# Altium schematic symbol library TEP-AltiumLib-TP-MH-Tooling-Logo.SCHLIB: 31 symbols
Pins are listed as number, name and electrical type; pins without a type are passive.

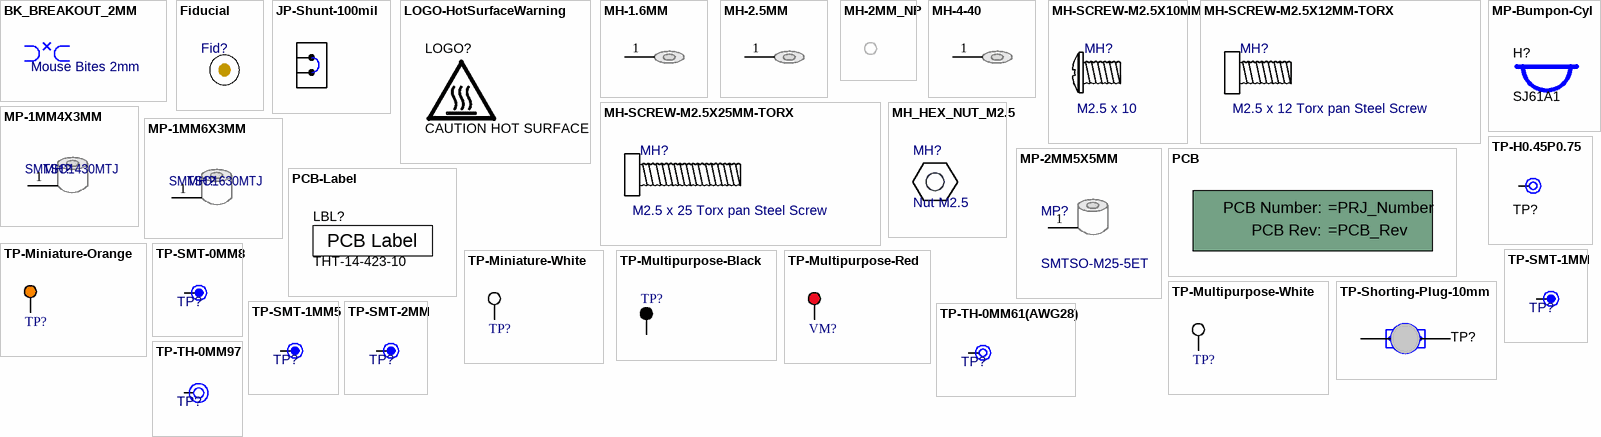
[diagram p0: symbols BK_BREAKOUT_2MM to TP-TH-0MM97]

## BK_BREAKOUT_2MM
designator BRK?, comment value Mouse Bites 2mm  (hidden comment: DNP)  (no BOM)
Mouse Bites; Mounting Technology: N/A
footprint BK_CRACK1B_M (Cracker métrique NPTH)
footprint BK_CRACK2B_M (Cracker métrique NPTH)
pins: 1 hidden, 2 hidden, 3 hidden, 4 hidden, 5 hidden

## Fiducial
designator Fid?, comment DNP  (value not drawn)  (no BOM)
Fiducial mark for alignement and Pick&Place; Value: Fiducial mark; Mounting Technology: N/A
footprint FD_Fiducial (Fiducial)
pins: 1 hidden, 1 hidden, 2 hidden, 3 hidden, 4 hidden, 5 hidden

## JP-Shunt-100mil
designator SH-J?, comment 60900213421  (value not drawn)  (mechanical)
Shunt, 2.54mm, Gold, Black; Manufacturer 1: Wurth Elektronik; Supplier Part Number 2: 16T0609; Supplier 3: Mouser; Supplier 1: Digi-Key; Supplier Part Number 1: 732-2678-ND; Supplier Part Number 3: 710-60900213421; Supplier 2: Newark; Manufacturer Part Number 1: 60900213421; Mounting Technology: N/A
footprint JP-Shunt-100mil (Shunt, 2.54mm, Black)

## LOGO-HotSurfaceWarning
designator LOGO?, comment CAUTION HOT SURFACE  (no BOM)
IEC 61010-1 Hot Surface Warning; Manufacturer 1: Texas Instruments; Manufacturer Part Number 1: DNP; Library Reference: IEC_HotSurface; Mounting Technology: N/A
footprint IEC_HotSurface_Small

## MH-1.6MM
designator MH?, comment DNP  (value not drawn)  (no BOM)
Mounting Hole 1.6mm; Manufacturer Part Number 1: DNP; Mounting Technology: N/A; Value: Mounting Hole 1.6mm; Supplier Part Number 1: N/A
footprint MP_M-Hole_M1.6 (Monting Hole M1.6)
pins: 1 (power)

## MH-2.5MM
designator MH?, comment DNP  (value not drawn)  (no BOM)
Mounting Hole 2.5mm w/ Flat Washer; Manufacturer Part Number 1: DNP; Mounting Technology: N/A; Value: Mounting Hole 2.5mm w/ Flat Washer; Supplier Part Number 1: N/A
footprint MP_M-Hole_M2.5x0.45mm_LOOSE-FIT (Monting Hole M2.5x0.45mm LOOSE Fit)
footprint MP_M-Hole_M2.5x0.45mm_TIGHT-FIT (Monting Hole M2.5x0.45mm Tight Fit)
pins: 1 (power)

## MH-2MM_NP
designator MH?, comment DNP  (value not drawn)  (no BOM)
Mounting Hole 2mm non plated; Manufacturer Part Number 1: DNP; Mounting Technology: N/A; Value: Mounting Hole 2mm non plated; Supplier Part Number 1: N/A
footprint MP_M-Hole_M2-NonPlated (Monting Hole M2 non plated)

## MH-4-40
designator MH?, comment DNP  (value not drawn)  (no BOM)
Mounting Hole #4-40 w/ Flat Washer; Manufacturer Part Number 1: DNP; Mounting Technology: N/A; Value: Mounting Hole #4-40 w/ Flat Washer; Supplier Part Number 1: N/A
footprint MP_M-Hole_#4-40_LOOSE-FIT (Monting Hole #4-40 Loose Fit)
pins: 1 (power)

## MH-SCREW-M2.5X10MM
designator MH?, comment M2.5 x 10  (mechanical)
Value: M2.5 x 10; Mounting Technology: Hardware

## MH-SCREW-M2.5X12MM-TORX
designator MH?, comment M2.5 x 12 Torx pan Steel Screw  (mechanical)
Code CEGEP: KVIS12MM; Localisation: R13-C160-1; Value: M2.5 x 12 Torx pan Steel Screw; Mounting Technology: Hardware

## MH-SCREW-M2.5X25MM-TORX
designator MH?, comment M2.5 x 25 Torx pan Steel Screw  (mechanical)
Code CEGEP: KVIS25MM; Localisation: R13-C160-2; Value: M2.5 x 25 Torx pan Steel Screw; Mounting Technology: Hardware

## MH_HEX_NUT_M2.5
designator MH?, comment Nut M2.5  (mechanical)
Steel Hex Nut M2.5; Manufacturer 1: Keystone Electronics; Manufacturer Part Number 1: 4707; Code CEGEP: KECROU; Localisation: R13-C160-3; Supplier 1: Digikey; Supplier Part Number 1: 36-4707-ND; Value: Steel Hex Nut M2.5; Mounting Technology: Hardware

## MP-1MM4X3MM
designator MH?, comment SMTSO1430MTJ
Mounting Standoff Threaded 1.4mm, stack height 3mm, SMT; Manufacturer 1: Sinhoo; Manufacturer Part Number 1: SMTSO1430MTJ; Mounting Technology: SMT; Value: Mounting Standoff Threaded 1.4mm, stack height 3mm, SMT; Supplier 1: LCSC; Supplier Part Number 1: C2915624
footprint MP_Standoff_M1.4x3mm_SMT (Spacer SMT 3mm M1.4)
pins: 1 (power)

## MP-1MM6X3MM
designator MH?, comment SMTSO1630MTJ
Mounting Standoff Threaded 1.6mm, stack height 3mm, SMT; Manufacturer 1: Sinhoo; Code CEGEP: KPTSO10; Localisation: R13-E070; Manufacturer Part Number 1: SMTSO1630MTJ; Mounting Technology: SMT; Value: Mounting Standoff Threaded 1.6mm, stack height 3mm, SMT; Supplier 1: LCSC; Supplier Part Number 1: C2915625
footprint MP_Standoff_M1.4x3mm_SMT (Spacer SMT 3mm M1.4)
pins: 1 (power)

## MP-2MM5X5MM
designator MP?, comment SMTSO-M25-5ET
Mounting Standoff Threaded Standoff M2.5, 5mm SMT; Manufacturer 1: PennEngineering; Manufacturer Part Number 1: SMTSO-M25-5ET; Mounting Technology: SMT; Value: Mounting Standoff Threaded Standoff M2.5, 5mm SMT
footprint MP_Standoff_M2.5x5mm_SMT (Spacer SMT 5mm M2.5)
pins: 1 (power)

## MP-Bumpon-Cyl
designator H?, comment SJ61A1  (mechanical)
Bumpon, Cylindrical, 0.312 X 0.200, Black; Manufacturer 1: 3M; Supplier Part Number 2: 517-SJ-61A1; Supplier 1: Digi-Key; Supplier Part Number 1: SJ5746-0-ND; Supplier 2: Mouser; Manufacturer Part Number 1: SJ61A1; Mounting Technology: N/A
footprint MP-Bumpon_SJ61A1 (3M Cylindrical Bumpon)

## PCB
designator !PCB?, comment Printed Circuit Board  (value not drawn)  (mechanical)
Manufacturer 1: Any; Mounting Technology: N/A
1 alternate drawing of the same symbol
text: PCB Number:; PCB Rev:

## PCB-Label
designator LBL?, comment THT-14-423-10  (mechanical)
Thermal Transfer Printable Labels, 0.650" W x 0.200" H - 10,000 per roll; Manufacturer 1: Brady; Supplier 1: Newark; Supplier Part Number 1: 97C5133; Supplier 2: Farnell; Supplier Part Number 2: 2065596; Manufacturer Part Number 1: THT-14-423-10; Mounting Technology: N/A
footprint Label_650x200 (Thermal Transfer Label)
text: PCB Label

## TP-H0.45P0.75
designator TP?, comment TP_H0.45P0.75  (value not drawn)  (no BOM)
Testpoint; Manufacturer 1: Texas Instruments; Manufacturer Part Number 1: TP_H0.45P0.75; Mounting Technology: TH
footprint TP_H045P075 (TP_H0.45P0.75)
pins: 1

## TP-Miniature-Orange
designator TP?, comment 5003  (value not drawn)
Test Point, Miniature, Orange, TH; Manufacturer 1: Keystone Electronics; Supplier Part Number 2: 534-5003; Supplier 2: Mouser; Supplier 1: Digi-Key; Supplier Part Number 1: 36-5003-ND; Manufacturer Part Number 1: 5003; Mounting Technology: TH
footprint TP-Keystone5003 (For Keystone 500x miniature loop terminals)
pins: 1

## TP-Miniature-White
designator TP?, comment 5002  (value not drawn)
Test Point, Miniature, White, TH; Manufacturer 1: Keystone Electronics; Supplier Part Number 3: 534-5002; Supplier Part Number 2: 82H9632; Supplier 2: Newark; Supplier 3: Mouser; Supplier Part Number 1: 36-5002-ND; Supplier 1: Digi-Key; Manufacturer Part Number 1: 5002; Mounting Technology: TH
footprint TP-Keystone5002 (For Keystone 500x miniature loop terminals)
pins: 1

## TP-Multipurpose-Black
designator TP?, comment 5011  (value not drawn)
Test Point, Multipurpose, Black, TH; Manufacturer 1: Keystone Electronics; Manufacturer Part Number 1: 36-5011-ND; Supplier Part Number 2: 534-5011; Supplier 2: Mouser; Supplier 1: Digi-Key; Supplier Part Number 1: 36-5011-ND; Mounting Technology: TH
footprint TP-Keystone5011 (Keystone Multipurpose loops)
pins: 1

## TP-Multipurpose-Red
designator VM?, comment 5010  (value not drawn)
Test Point, Multipurpose, Red, TH; Manufacturer 1: Keystone Electronics; Manufacturer Part Number 1: 36-5010-ND; Supplier Part Number 2: 534-5010; Supplier 2: Mouser; Supplier 1: Digi-Key; Supplier Part Number 1: 36-5010-ND; Mounting Technology: TH
footprint TP-Keystone5010 (Keystone Multipurpose loops)
pins: 1

## TP-Multipurpose-White
designator TP?, comment 5012  (value not drawn)
Test Point, Multipurpose, White, TH; Manufacturer 1: Keystone Electronics; Supplier Part Number 2: 534-5012; Supplier Part Number 1: 36-5012-ND; Supplier 2: Mouser; Supplier 1: Digi-Key; Manufacturer Part Number 1: 5012; Mounting Technology: TH
footprint TP-Keystone5012 (Keystone Multipurpose loops)
pins: 1

## TP-Shorting-Plug-10mm
designator TP?, comment Jumper_2p  (value not drawn)
1mm Uninsulated Shorting Plug, 10.16mm spacing, TH; Manufacturer 1: Harwin; Manufacturer Part Number 1: D3082-05; Supplier 1: Digi-Key; Supplier 2: Newark; Supplier 3: Mouser; Supplier Part Number 1: 952-1873-ND; Supplier Part Number 2: 01E9240; Supplier Part Number 3: 855-D3082-05; Mounting Technology: TH
footprint TP-Harwin_D3082-05 (Shorting Plug, 10.16mm spacing, TH)
pins: 1, 2

## TP-SMT-0MM8
designator TP?, comment DNP  (value not drawn)  (no BOM)
Pad SMT 0.8mm diameter; Value: Pad SMT 0.8mm; Manufacturer Part Number 1: DNP; Supplier Part Number 1: N/A; Supplier 1: N/A; Mounting Technology: N/A
footprint TP_SMT08 (Test point SMT pad 0.8mm)
pins: 1

## TP-SMT-1MM
designator TP?, comment DNP  (value not drawn)  (no BOM)
Pad SMT 1mm diameter; Value: Pad SMT 1mm; Manufacturer Part Number 1: DNP; Supplier Part Number 1: N/A; Supplier 1: N/A; Mounting Technology: N/A
footprint TP_SMT10 (Test point SMT pad 1mm)
pins: 1

## TP-SMT-1MM5
designator TP?, comment DNP  (value not drawn)  (no BOM)
Pad SMT 1.5mm diameter; Value: Pad SMT 1.5mm; Manufacturer Part Number 1: DNP; Supplier Part Number 1: N/A; Supplier 1: N/A; Mounting Technology: N/A
footprint TP_SMT15 (Test point SMT pad 1.5mm)
pins: 1

## TP-SMT-2MM
designator TP?, comment DNP  (value not drawn)  (no BOM)
Pad SMT 2mm diameter; Value: Pad SMT 2mm; Manufacturer Part Number 1: DNP; Supplier Part Number 1: N/A; Supplier 1: N/A; Mounting Technology: N/A
footprint TP_SMT20 (Test point SMT pad 2mm)
pins: 1

## TP-TH-0MM61(AWG28)
designator TP?, comment DNP  (value not drawn)  (no BOM)
Pad TH 0.61mm diameter (AWG28); Value: Pad TH 0.61mm diameter (AWG28); Manufacturer Part Number 1: DNP; Supplier Part Number 1: N/A; Supplier 1: N/A; Mounting Technology: N/A
footprint TP_TH061 (Test point hole 0.61mm diameter (AWG28))
pins: 1

## TP-TH-0MM97
designator TP?, comment DNP  (value not drawn)  (no BOM)
Pad TH 0.97mm diameter; Value: Pad TH 0.97mm diameter; Manufacturer Part Number 1: DNP; Supplier Part Number 1: N/A; Supplier 1: N/A; Mounting Technology: N/A
footprint TP_TH097 (Test point hole 0.97mm diameter (AWG22))
pins: 1